# EAGLE library part MMA8451Q (library mille-feuille)
MMA8451Q, 3-Axis, 14-bit/8-bit Digital Accelerometer NXP / Freescale Semiconductor
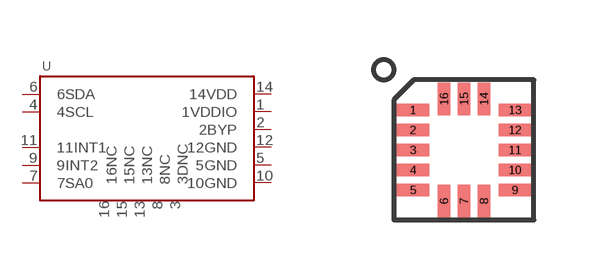
[diagram p6: symbol with the pads of QFN-16-5-3; footprint QFN-16-5-3]

Designator prefix U

## MMA8451Q  [QFN-16-5-3]
1  1VDDIO  pwr
2  2BYP
3  3DNC  nc
4  4SCL
5  5GND  pwr
6  6SDA
7  7SA0
8  8NC  nc
9  9INT2
10  10GND  pwr
11  11INT1
12  12GND  pwr
13  13NC  nc
14  14VDD  pwr
15  15NC  nc
16  16NC  nc

## Footprint QFN-16-5-3 (pad centres in mm)
smd 0.813 x 0.305: 1 -1.275,1; 2 -1.275,0.5; 3 -1.275,0; 4 -1.275,-0.5; 5 -1.275,-1; 9 1.275,-1; 10 1.275,-0.5; 11 1.275,0; 12 1.275,0.5; 13 1.275,1
smd 0.305 x 0.813: 6 -0.5,-1.275; 7 0,-1.275; 8 0.5,-1.275; 14 0.5,1.275; 15 0,1.275; 16 -0.5,1.275